# Altium footprint library WQFN-12_EP_4x4_0.8mm.PcbLib: 1 footprints
Each footprint in its own frame and in the unit in brackets; x right, y up, seen from the top. Pads: shape width x height; smd on the part's side, far side on the other; paste and mask are expansions set on the pad; w line width, h text height; cw(c..) or ccw(c..) is an arc to the next point about the centre after c.
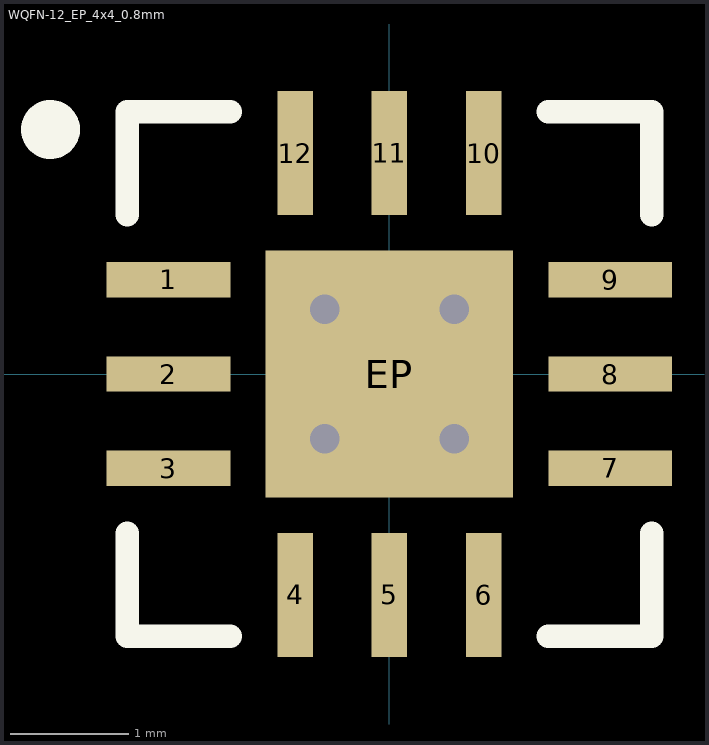
[diagram p0: the footprint, top view; thin cyan lines are the x and y axes]

## WQFN-12_EP_4x4_0.8mm [mm] "QFN-12 with Exposed PAD 4x4mm 0.8mm Pitch"
height 0.8
pads (13):
  rect 1.05x0.3 smd: 1(-1.875,0.8) 2(-1.875,0) 3(-1.875,-0.8) 7(1.875,-0.8) 8(1.875,0) 9(1.875,0.8)
  rect 0.3x1.05 smd: 4(-0.8,-1.875) 5(0,-1.875) 6(0.8,-1.875) 10(0.8,1.875) 11(0,1.875) 12(-0.8,1.875)
  rect 2.1x2.1 smd: EP(0,0)
via -0.55,0.55 diameter 0.5 hole 0.25
via 0.55,0.55 diameter 0.5 hole 0.25
via -0.55,-0.55 diameter 0.5 hole 0.25
via 0.55,-0.55 diameter 0.5 hole 0.25
Top Overlay:
  circle w0.25: c-2.875,2.075 r0.125
  lines w0.2: -2.225,-1.35 -2.225,-2.225 -1.35,-2.225 ; -2.225,1.35 -2.225,2.225 -1.35,2.225 ; 1.35,-2.225 2.225,-2.225 2.225,-1.35 ; 1.35,2.225 2.225,2.225 2.225,1.35
3D body "WQFN-12_EP_4x4_0.8mm.stp": height 0.8, standoff 0, extent -2,-2 2,2